# Altium footprint library DE-120418.PcbLib: 33 footprints (part 1 of 3)
Each footprint in its own frame and in the unit in brackets; x right, y up, seen from the top. Pads: shape width x height; smd on the part's side, far side on the other; paste and mask are expansions set on the pad; w line width, h text height; cw(c..) or ccw(c..) is an arc to the next point about the centre after c.
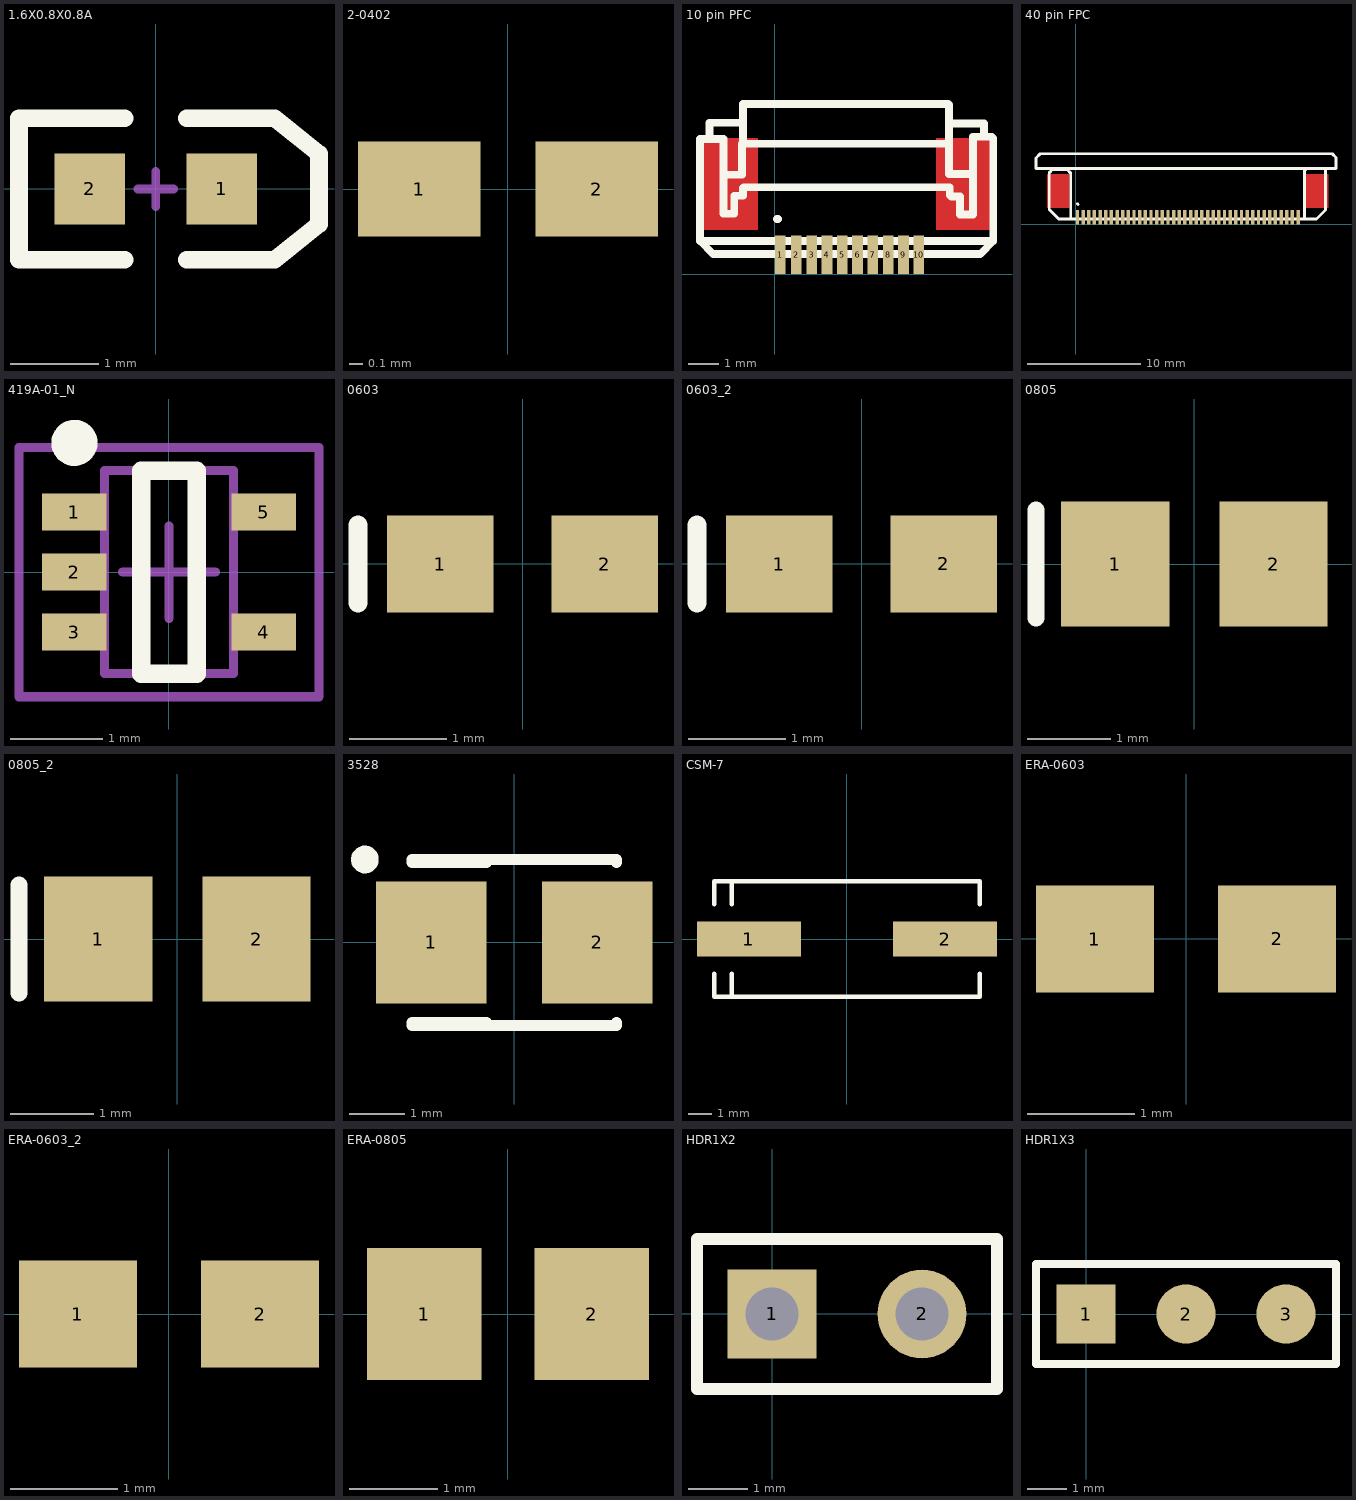
[diagram p0: the footprints below, top view; thin cyan lines are the x and y axes]

## 1.6X0.8X0.8A [mm] "SM LED; 2 Flat Leads"
height 0.7
pads (2):
  rect 0.8x0.8 smd: 1(0.75,0) 2(-0.75,0)
Top Overlay:
  lines w0.2: -0.35,-0.8 -1.55,-0.8 -1.55,0.8 -0.35,0.8 ; 0.35,-0.8 1.35,-0.8 1.85,-0.4 1.85,0.4 1.35,0.8 0.35,0.8
Mechanical 1:
  lines w0.1: -0.2,0 0.2,0 ; 0,-0.2 0,0.2

## 2-0402 [mm] "Chip Resistor; Body 1 x 0.5 mm (LxW typ)"
height 0.4
pads (2):
  rect 0.9x0.7 smd: 1(-0.65,0) 2(0.65,0)

## 10 pin PFC [mm]
height 6
pads (10):
  rect 0.35x1.25 smd: 1(0.178,0.635) 2(0.703,0.635) 3(1.203,0.635) 4(1.703,0.635) 5(2.203,0.635) 6(2.703,0.635) 7(3.203,0.635) 8(3.703,0.635) 9(4.203,0.635) 10(4.703,0.635)
Top Layer:
  rectangle: -2.54,1.45 -0.54,4.45
  rectangle: 5.258,1.45 7.258,4.45
Top Overlay:
  lines w0.254: -2.134,4.572 -2.134,4.953 -1.041,4.953 ; -1.549,3.251 -1.067,3.251 -1.067,4.267 5.69,4.267 ; -1.067,4.242 -1.041,4.267 -1.041,4.953 ; 0.076,1.803 0.102,1.803 ; 5.664,5.563 -1.041,5.563 -1.041,4.953 ; 5.69,5.537 5.69,4.928 ; 6.401,3.277 5.69,3.277 5.69,4.267 ; 6.833,4.572 6.833,4.928 5.69,4.928 ; -2.438,1.092 -2.438,1.118 -2.438,4.42 -1.676,4.42 -1.676,1.981 -1.321,1.981 -1.321,2.565 -1.041,2.565 -1.041,2.819 -1.016,2.845 5.715,2.845 5.715,2.591 5.766,2.54 6.045,2.54 6.045,1.956 6.477,1.956 6.477,4.496 7.087,4.496 7.137,4.445 7.137,1.092 ; -2.438,1.092 -2.007,0.66 6.706,0.66 7.137,1.092 ; -2.438,1.092 7.137,1.092 ; 5.69,4.267 5.69,4.928

## 40 pin FPC [mm]
height 6
pads (40):
  rect 0.3x1.25 smd: 1(0.16,0.635) 2(0.66,0.635) 3(1.16,0.635) 4(1.66,0.635) 5(2.16,0.635) 6(2.66,0.635) 7(3.16,0.635) 8(3.66,0.635) 9(4.16,0.635) 10(4.66,0.635) 11(5.16,0.635) 12(5.66,0.635) 13(6.16,0.635) 14(6.66,0.635) 15(7.16,0.635) 16(7.66,0.635) 17(8.16,0.635) 18(8.66,0.635) 19(9.16,0.635) 20(9.66,0.635) 21(10.16,0.635) 22(10.66,0.635) 23(11.16,0.635) 24(11.66,0.635) 25(12.16,0.635) 26(12.66,0.635) 27(13.16,0.635) 28(13.66,0.635) 29(14.16,0.635) 30(14.66,0.635) 31(15.16,0.635) 32(15.66,0.635) 33(16.16,0.635) 34(16.66,0.635) 35(17.16,0.635) 36(17.66,0.635) 37(18.16,0.635) 38(18.66,0.635) 39(19.16,0.635) 40(19.66,0.635)
Top Layer:
  rectangle: 20.352,1.45 22.352,4.45
  rectangle: -2.54,1.45 -0.54,4.45
Top Overlay:
  lines w0.254: -0.432,0.483 -0.432,4.521 -0.762,4.851 -2.057,4.851 -2.337,4.572 -2.337,1.321 -1.499,0.483 21.285,0.483 22.073,1.27 22.073,4.801 21.92,4.953 20.422,4.953 20.218,4.75 20.218,0.483 ; 0.152,1.829 0.152,1.803 0.203,1.753 ; -3.505,4.953 -3.505,5.867 -3.124,6.248 22.682,6.248 23.012,5.918 23.012,4.953 -3.505,4.953

## 419A-01_N [mm] "SOT353, 5-Leads, Body 2x1.3mm, Pitch 0.65mm, Lead Span 2.1mm, IPC Medium Density"
height 1.1
pads (5):
  rect 0.7x0.4 smd: 1(-1.025,0.65) 2(-1.025,0) 3(-1.025,-0.65) 4(1.025,-0.65) 5(1.025,0.65)
Top Overlay:
  circle w0.25: c-1.025,1.4 r0.125
  lines w0.2: -0.3,-1.1 -0.3,1.1 0.3,1.1 0.3,-1.1 -0.3,-1.1
Mechanical 13:
  lines w0.1: -0.7,-1.1 0.7,-1.1 0.7,1.1 -0.7,1.1 -0.7,-1.1
Mechanical 15:
  lines w0.1: -0.5,0 0.5,0 ; 0,-0.5 0,0.5 ; -1.625,-1.35 1.625,-1.35 1.625,1.35 -1.625,1.35 -1.625,-1.35
3D body: height 1.1, standoff 0, extent -0.7,-1.1 0.7,1.1

## 0603 [mm] "Chip Capacitor; Body 1.6 x 0.8 mm (LxW typ)"
height 0.87
pads (2):
  rect 1.1x1 smd: 1(-0.85,0) 2(0.85,0)
Top Overlay:
  lines w0.2: -1.7,-0.4 -1.7,0.4
3D body: height 0.87, standoff 0, extent -1.8,-0.602 1.502,0.602

## 0603_2 [mm]
pads (2):
  rect 1.1x1 smd: 1(-0.85,0) 2(0.85,0)
Top Overlay:
  lines w0.2: -1.7,-0.4 -1.7,0.4
3D body: height 0.87, standoff 0, extent -1.8,-0.602 1.502,0.602

## 0805 [mm] "Chip Capacitor; Body 2.0 x 1.2 mm (LxW typ)"
height 1.3
pads (2):
  rect 1.3x1.5 smd: 1(-0.95,0) 2(0.95,0)
Top Overlay:
  lines w0.2: -1.9,-0.65 -1.9,0.65

## 0805_2 [mm]
pads (2):
  rect 1.3x1.5 smd: 1(-0.95,0) 2(0.95,0)
Top Overlay:
  lines w0.2: -1.9,-0.65 -1.9,0.65
3D body: height 1.3, standoff 0, extent -1.702,-0.852 1.702,0.852
3D body: height 1.3, standoff 0, extent -2,-0.852 1.702,0.852

## 3528 [mm] "Capacitor, SM Tantalum; Body 3.5 x 2.8 mm (LxW typ)"
height 2.1
pads (2):
  rect 2x2.2 smd: 1(-1.5,0) 2(1.5,0)
Top Overlay:
  circle w0.25: c-2.7,1.5 r0.125
  lines w0.2: -1.85,-1.5 1.85,-1.5 1.85,-1.45 ; -1.85,-1.45 -0.5,-1.45 ; -1.85,1.45 -0.5,1.45 ; -1.85,1.5 1.85,1.5 1.85,1.45

## CSM-7 [mm] "Quartz Crystal, SM; 2 Leads; Body 11.4 x 4.8 x 5 mm (LxWxH)"
height 5
pads (2):
  rect 4.5x1.5 smd: 1(-4.25,0) 2(4.25,0)
Top Overlay:
  lines w0.2: -5.75,-1.5 -5.75,-2.5 5.75,-2.5 5.75,-1.5 ; -5.75,1.5 -5.75,2.5 5.75,2.5 5.75,1.5 ; -5,-2.5 -5,-1.5 ; -5,1.5 -5,2.5

## ERA-0603 [mm] "Chip Resistor; Body 1.6 x 0.8 mm (LxW typ)"
height 0.55
pads (2):
  rect 1.1x1 smd: 1(-0.85,0) 2(0.85,0)
3D body: height 0.55, standoff 0, extent -1.502,-0.602 1.502,0.602

## ERA-0603_2 [mm]
pads (2):
  rect 1.1x1 smd: 1(-0.85,0) 2(0.85,0)
3D body: height 0.55, standoff 0, extent -1.502,-0.602 1.502,0.602
3D body: height 0.55, standoff 0, extent -1.502,-0.602 1.502,0.602

## ERA-0805 [mm] "Chip Resistor; Body 2 x 1.3 mm (LxW typ)"
height 0.6
pads (2):
  rect 1.3x1.5 smd: 1(-0.95,0) 2(0.95,0)

## HDR1X2 [mm] "Connector; Header; 2 Position"
height 6
pads (2):
  rect 1.5x1.5 hole 0.9: 1(0,0)
  round 1.5 hole 0.9: 2(2.54,0)
Top Overlay:
  lines w0.2: -1.27,-1.27 3.81,-1.27 3.81,1.27 -1.27,1.27 -1.27,-1.27

## HDR1X3 [mm] "Connector; Header; 3 Position"
pads (3):
  rect 1.5x1.5 smd: 1(0,0)
  round 1.5 smd: 2(2.54,0) 3(5.08,0)
Top Overlay:
  lines w0.2: -1.27,-1.27 -1.27,1.27 6.35,1.27 6.35,-1.27 -1.27,-1.27